# EAGLE library part LTC6992 (library Engs125_library)
LTC6992 is a silicon oscillator with an easy-to-use analog voltage-controlled pulse width modulation (PWM) capability.
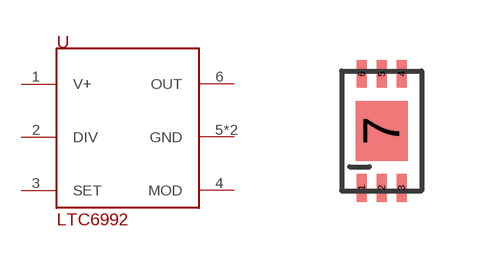
[diagram p1: symbol with the pads of LTC6992; footprint LTC6992]

Designator prefix U

## LTC6992  [LTC6992]
1  V+
2  DIV
3  SET
4  MOD
5  GND
6  OUT
7  GND

## Footprint LTC6992 (pad centres in mm)
Package/footprint for LTC6992. Date created: 10/4/2017
smd 0.25 x 0.7: 1 -0.5,-1.425; 2 0,-1.425; 3 0.5,-1.425; 4 0.5,1.425; 5 0,1.425; 6 -0.5,1.425
smd 1.3 x 1.5: 7 0,0